# Altium footprint library sot_23_3_p95_292x237x112.PcbLib: 1 footprints
Each footprint in its own frame and in the unit in brackets; x right, y up, seen from the top. Pads: shape width x height; smd on the part's side, far side on the other; paste and mask are expansions set on the pad; w line width, h text height; cw(c..) or ccw(c..) is an arc to the next point about the centre after c.
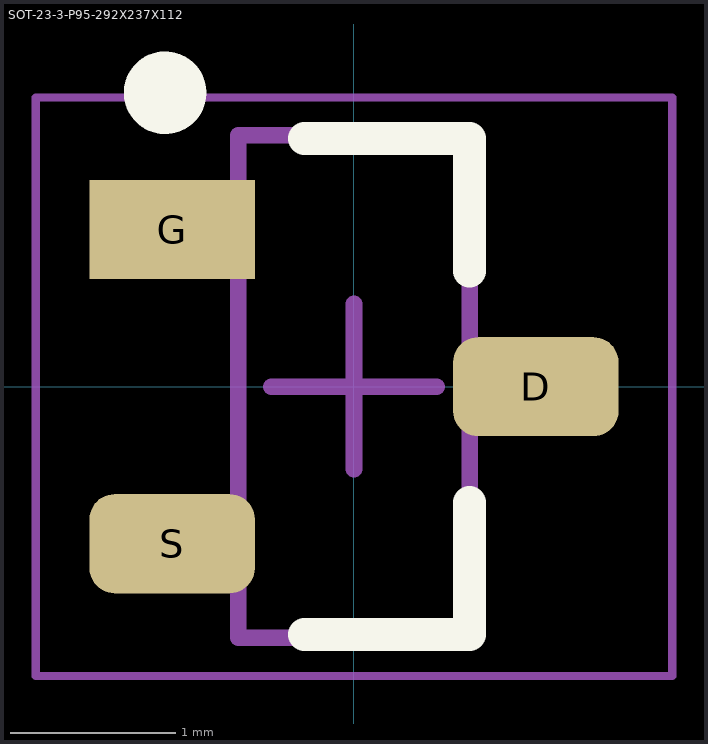
[diagram p0: the footprint, top view; thin cyan lines are the x and y axes]

## SOT-23-3-P95-292X237X112 [mm] "SOT-23, 3-Leads, Body 2,92x2,37mm, Pitch 0,95mm, IPC Medium Density"
height 1.12
pads (3):
  rrect50% 1x0.6 smd: D(1.1,0) S(-1.1,-0.95)
  rect 1x0.6 smd: G(-1.1,0.95)
Top Overlay:
  circle w0.25: c-1.143,1.778 r0.125
  lines w0.2: -0.3,-1.5 0.7,-1.5 0.7,-0.7 ; -0.3,1.5 0.7,1.5 0.7,0.7
Top Comment:
  text ".Comment" at 1,2.2 h1.2
Top Designator:
  text ".Designator" at -0.5,2.2 h1.2
Top Component Outline:
  lines w0.1: -0.7,-1.52 0.7,-1.52 0.7,1.52 -0.7,1.52 -0.7,-1.52
Top Courtyard (Mech15):
  lines w0.05: -1.925,-1.75 1.925,-1.75 1.925,1.75 -1.925,1.75 -1.925,-1.75
  lines w0.1: -0.5,0 0.5,0 ; 0,-0.5 0,0.5
3D body "SOT-23-3.STEP": height 1.2, standoff 0, extent -1.2,-1.46 1.2,1.46